# Altium schematic symbol library DIODE-SCHOTTKY.SchLib: 1 symbol
Pins are listed as number, name and electrical type; pins without a type are passive.

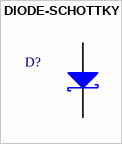
[diagram p0: symbol DIODE-SCHOTTKY]

## DIODE-SCHOTTKY
designator D?  (value not drawn)
Drawn By: Juan I Carrano
pins: 1 A, 2 K